# EAGLE library part STM32F4_64PIN (library DaneGardner)
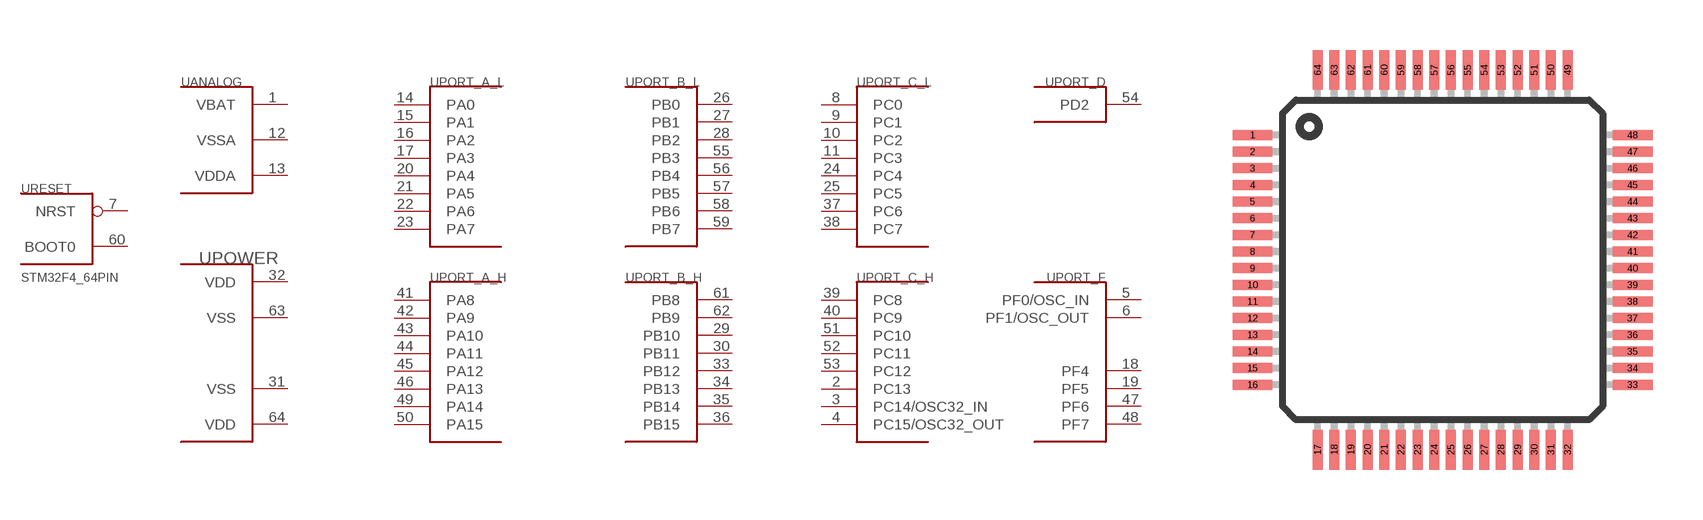
[diagram p7: symbol with the pads of TQFP64; footprint TQFP64]

Designator prefix -; gates PORT_A_H=PORT_A_H PORT_A_L=PORT_A_L PORT_B_L=PORT_B_L PORT_B_H=PORT_B_H PORT_C_L=PORT_C_L PORT_F=PORT_F_6 PORT_D=PORT_D_1 PORT_C_H=PORT_C_OSC ANALOG=BAT_AN_M RESET=BOOT_RST POWER=VCC_VDD_S

## STM32F4_64PIN_64  [TQFP64]
1  ANALOG:VBAT  pwr
2  PORT_C_H:PC13
3  PORT_C_H:PC14/OSC32_IN
4  PORT_C_H:PC15/OSC32_OUT
5  PORT_F:PF0/OSC_IN
6  PORT_F:PF1/OSC_OUT
7  RESET:NRST  in
8  PORT_C_L:PC0
9  PORT_C_L:PC1
10  PORT_C_L:PC2
11  PORT_C_L:PC3
12  ANALOG:VSSA  pwr
13  ANALOG:VDDA  pwr
14  PORT_A_L:PA0
15  PORT_A_L:PA1
16  PORT_A_L:PA2
17  PORT_A_L:PA3
18  PORT_F:PF4
19  PORT_F:PF5
20  PORT_A_L:PA4
21  PORT_A_L:PA5
22  PORT_A_L:PA6
23  PORT_A_L:PA7
24  PORT_C_L:PC4
25  PORT_C_L:PC5
26  PORT_B_L:PB0
27  PORT_B_L:PB1
28  PORT_B_L:PB2
29  PORT_B_H:PB10
30  PORT_B_H:PB11
31  POWER:VSS  pwr
32  POWER:VDD  pwr
33  PORT_B_H:PB12
34  PORT_B_H:PB13
35  PORT_B_H:PB14
36  PORT_B_H:PB15
37  PORT_C_L:PC6
38  PORT_C_L:PC7
39  PORT_C_H:PC8
40  PORT_C_H:PC9
41  PORT_A_H:PA8
42  PORT_A_H:PA9
43  PORT_A_H:PA10
44  PORT_A_H:PA11
45  PORT_A_H:PA12
46  PORT_A_H:PA13
47  PORT_F:PF6
48  PORT_F:PF7
49  PORT_A_H:PA14
50  PORT_A_H:PA15
51  PORT_C_H:PC10
52  PORT_C_H:PC11
53  PORT_C_H:PC12
54  PORT_D:PD2
55  PORT_B_L:PB3
56  PORT_B_L:PB4
57  PORT_B_L:PB5
58  PORT_B_L:PB6
59  PORT_B_L:PB7
60  RESET:BOOT0  in
61  PORT_B_H:PB8
62  PORT_B_H:PB9
63  POWER:VSS  pwr
64  POWER:VDD  pwr

## Footprint TQFP64 (pad centres in mm)
smd 1.2 x 0.3: 1 -5.7,3.75; 2 -5.7,3.25; 3 -5.7,2.75; 4 -5.7,2.25; 5 -5.7,1.75; 6 -5.7,1.25; 7 -5.7,0.75; 8 -5.7,0.25; 9 -5.7,-0.25; 10 -5.7,-0.75; 11 -5.7,-1.25; 12 -5.7,-1.75; 13 -5.7,-2.25; 14 -5.7,-2.75; 15 -5.7,-3.25; 16 -5.7,-3.75; 33 5.7,-3.75; 34 5.7,-3.25; 35 5.7,-2.75; 36 5.7,-2.25; 37 5.7,-1.75; 38 5.7,-1.25; 39 5.7,-0.75; 40 5.7,-0.25; 41 5.7,0.25; 42 5.7,0.75; 43 5.7,1.25; 44 5.7,1.75; 45 5.7,2.25; 46 5.7,2.75; 47 5.7,3.25; 48 5.7,3.75
smd 0.3 x 1.2: 17 -3.75,-5.7; 18 -3.25,-5.7; 19 -2.75,-5.7; 20 -2.25,-5.7; 21 -1.75,-5.7; 22 -1.25,-5.7; 23 -0.75,-5.7; 24 -0.25,-5.7; 25 0.25,-5.7; 26 0.75,-5.7; 27 1.25,-5.7; 28 1.75,-5.7; 29 2.25,-5.7; 30 2.75,-5.7; 31 3.25,-5.7; 32 3.75,-5.7; 49 3.75,5.7; 50 3.25,5.7; 51 2.75,5.7; 52 2.25,5.7; 53 1.75,5.7; 54 1.25,5.7; 55 0.75,5.7; 56 0.25,5.7; 57 -0.25,5.7; 58 -0.75,5.7; 59 -1.25,5.7; 60 -1.75,5.7; 61 -2.25,5.7; 62 -2.75,5.7; 63 -3.25,5.7; 64 -3.75,5.7